# Altium footprint library APF控制.pcblib: 35 footprints (part 2 of 3)
Each footprint in its own frame and in the unit in brackets; x right, y up, seen from the top. Pads: shape width x height; smd on the part's side, far side on the other; paste and mask are expansions set on the pad; w line width, h text height; cw(c..) or ccw(c..) is an arc to the next point about the centre after c.
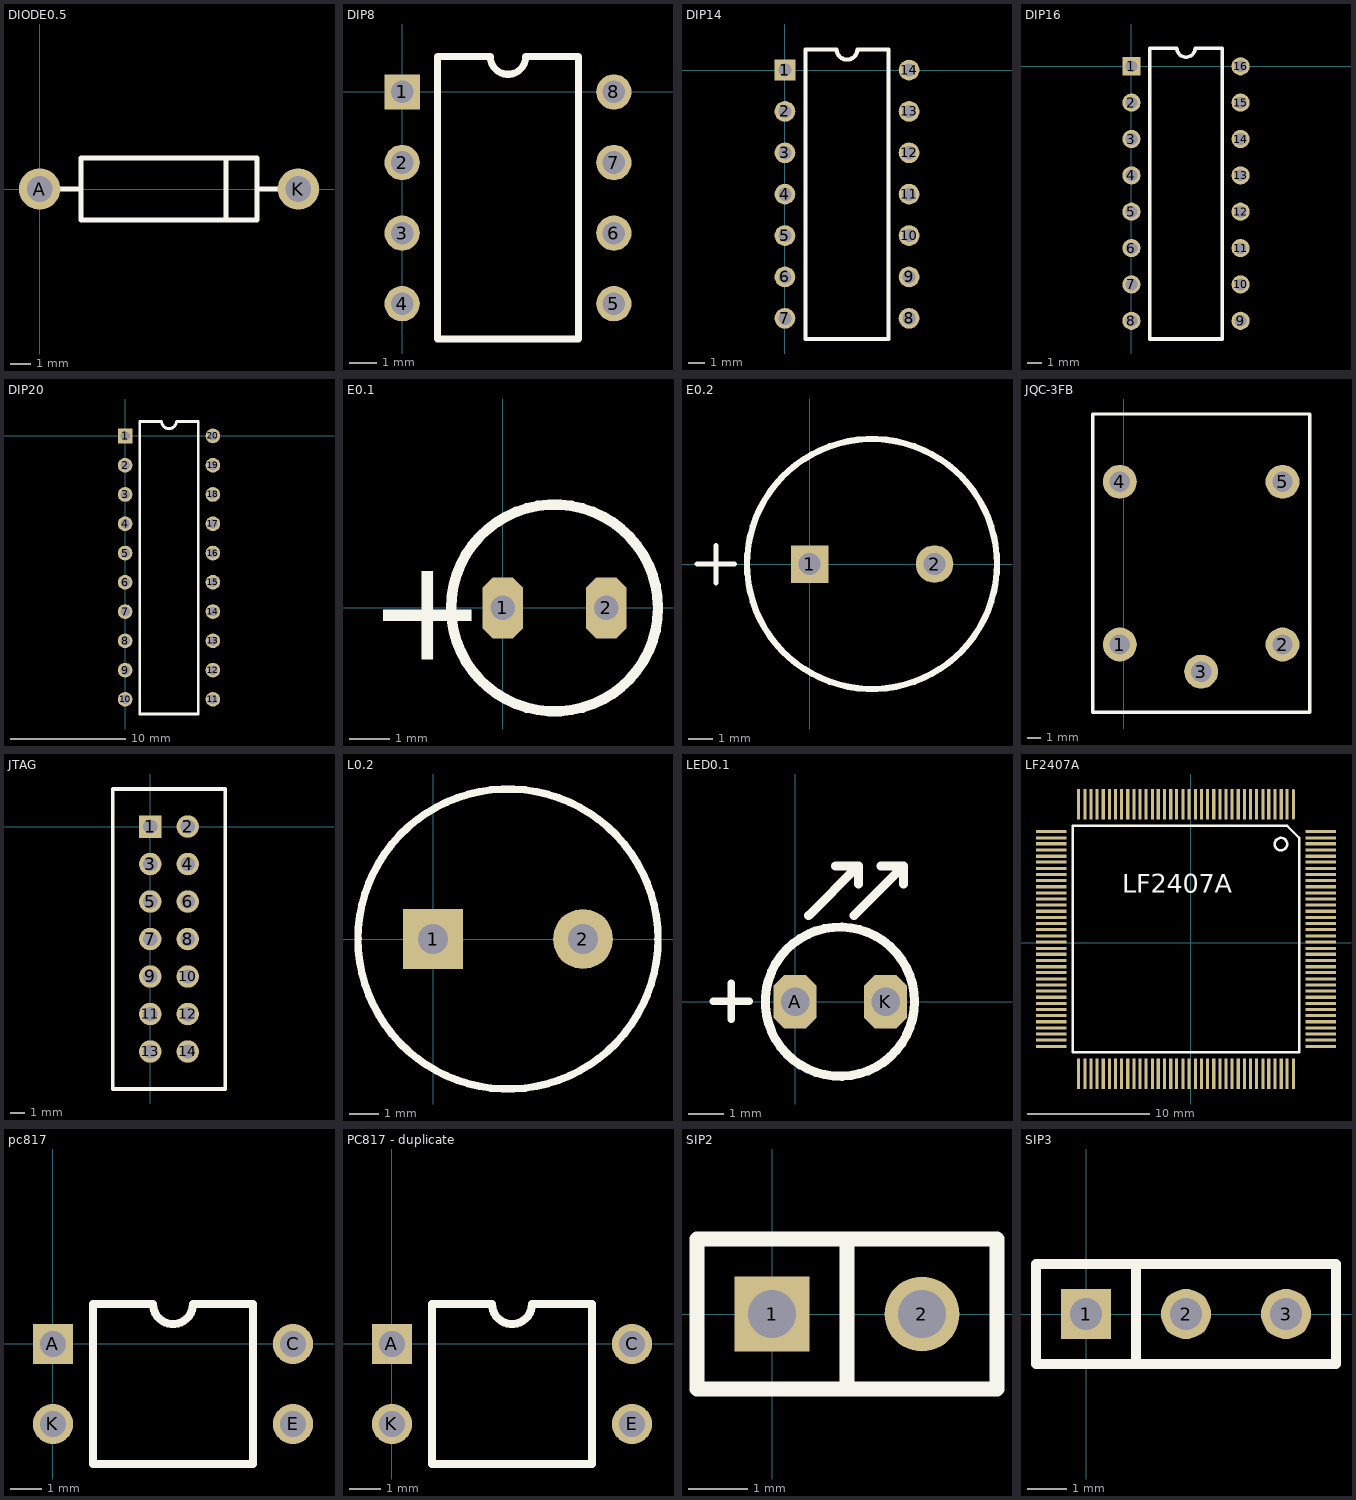
[diagram p1: the footprints below, top view; thin cyan lines are the x and y axes]

## DIODE0.5 [mil]
pads (2):
  round 80 hole 50: A(0,0) K(500,0)
TopOverlay:
  lines w10: 40,0 80,0 ; 360,-60 360,60 ; 420,0 460,0 ; 80,0 80,-60 420,-60 420,60 80,60 80,0

## DIP8 [mil]
pads (8):
  rect 50x50 hole 32: 1(0,0)
  round 50 hole 32: 2(0,-100) 3(0,-200) 4(0,-300) 5(300,-300) 6(300,-200) 7(300,-100) 8(300,0)
TopOverlay:
  lines w10: 50,-350 250,-350 250,50 175,50 cw(c150,50) 125,50 50,50 50,-350

## DIP14 [mil]
pads (14):
  rect 50x50 hole 32: 1(0,0)
  round 50 hole 32: 2(0,-100) 3(0,-200) 4(0,-300) 5(0,-400) 6(0,-500) 7(0,-600) 8(300,-600) 9(300,-500) 10(300,-400) 11(300,-300) 12(300,-200) 13(300,-100) 14(300,0)
TopOverlay:
  lines w10: 50,-650 50,50 125,50 ccw(c150,50) 175,50 250,50 250,-650 50,-650

## DIP16 [mil]
pads (16):
  rect 50x50 hole 32: 1(0,0)
  round 50 hole 32: 2(0,-100) 3(0,-200) 4(0,-300) 5(0,-400) 6(0,-500) 7(0,-600) 8(0,-700) 9(300,-700) 10(300,-600) 11(300,-500) 12(300,-400) 13(300,-300) 14(300,-200) 15(300,-100) 16(300,0)
TopOverlay:
  lines w10: 50,-750 250,-750 250,50 175,50 cw(c150,50) 125,50 50,50 50,-750

## DIP20 [mil]
pads (20):
  rect 50x50 hole 32: 1(0,0)
  round 50 hole 32: 2(0,-100) 3(0,-200) 4(0,-300) 5(0,-400) 6(0,-500) 7(0,-600) 8(0,-700) 9(0,-800) 10(0,-900) 11(300,-900) 12(300,-800) 13(300,-700) 14(300,-600) 15(300,-500) 16(300,-400) 17(300,-300) 18(300,-200) 19(300,-100) 20(300,0)
TopOverlay:
  lines w10: 50,-950 50,50 125,50 ccw(c150,50) 175,50 250,50 250,-950 50,-950

## E0.1 [mm]
pads (2):
  oct 1x1.5 hole 0.6: 1(0,0) 2(2.54,0)
TopOverlay:
  circle w0.254: c1.27,0 r2.54
  text "+" at -3.302,-1.27 h2.54

## E0.2 [mil]
pads (2):
  rect 60x60 hole 35: 1(0,0)
  round 60 hole 35: 2(200,0)
TopOverlay:
  circle w10: c100,0 r200
  lines w8: -180,0 -120,0 ; -150,-30 -150,30

## JQC-3FB [mm]
pads (5):
  round 2.5 hole 1.5: 1(-0.285,13.43) 2(11.715,13.43) 3(5.715,11.43) 4(-0.285,25.43) 5(11.715,25.43)
TopOverlay:
  lines w0.25: -2.285,8.43 13.715,8.43 13.715,30.43 -2.285,30.43 -2.285,8.43

## JTAG [mil]
pads (14):
  rect 60x60 hole 38: 1(0,0)
  round 60 hole 38: 2(100,0) 3(0,-100) 4(100,-100) 5(0,-200) 6(100,-200) 7(0,-300) 8(100,-300) 9(0,-400) 10(100,-400) 11(0,-500) 12(100,-500) 13(0,-600) 14(100,-600)
TopOverlay:
  lines w10: -100,-700 200,-700 200,100 -100,100 -100,-700

## L0.2 [mil]
pads (2):
  rect 80x80 hole 40: 1(0,0)
  round 80 hole 40: 2(200,0)
TopOverlay:
  circle w10: c100,0 r200

## LED0.1 [mm]
pads (2):
  oct 1.2x1.5 hole 0.8: A(0,0) K(2.54,0)
TopOverlay:
  circle w0.254: c1.259,0 r2.095
  lines w0.2: -2.297,0.01 -1.789,0.01 -1.281,0.01 ; -1.789,-0.498 -1.789,0.518
  lines w0.254: 0.381,2.413 1.778,3.81 ; 1.143,3.81 1.778,3.81 ; 1.651,2.413 3.048,3.81 ; 1.778,3.302 1.778,3.81 ; 2.413,3.81 3.048,3.81 ; 3.048,3.302 3.048,3.81

## LF2407A [mil]
pads (144):
  oval 10x98 smd: 1(330,445)
  rect 10x98 smd: 2(310,445) 3(291,445) 4(271,445) 5(251,445) 6(232,445) 7(212,445) 8(192,445) 9(173,445) 10(153,445) 11(133,445) 12(114,445) 13(94,445) 14(74,445) 15(54,445) 16(35,445) 17(15,445) 18(-5,445) 19(-25,445) 20(-45,445) 21(-64,445) 22(-84,445) 23(-104,445) 24(-123,445) 25(-143,445) 26(-163,445) 27(-182,445) 28(-202,445) 29(-222,445) 30(-241,445) 31(-261,445) 32(-281,445) 33(-301,445) 34(-320,445) 35(-340,445) 36(-360,445) 73(-360,-421) 74(-340,-421) 75(-320,-421) 76(-301,-421) 77(-281,-421) 78(-261,-421) 79(-241,-421) 80(-222,-421) 81(-202,-421) 82(-182,-421) 83(-163,-421) 84(-143,-421) 85(-123,-421) 86(-104,-421) 87(-84,-421) 88(-64,-421) 89(-45,-421) 90(-25,-421) 91(-5,-421) 92(15,-421) 93(35,-421) 94(54,-421) 95(74,-421) 96(94,-421) 97(114,-421) 98(133,-421) 99(153,-421) 100(173,-421) 101(192,-421) 102(212,-421) 103(232,-421) 104(251,-421) 105(271,-421) 106(291,-421) 107(310,-421) 108(330,-421)
  rect 98x10 smd: 37(-448,357) 38(-448,337) 39(-448,318) 40(-448,298) 41(-448,278) 42(-448,259) 43(-448,239) 44(-448,219) 45(-448,200) 46(-448,180) 47(-448,160) 48(-448,141) 49(-448,121) 50(-448,101) 51(-448,81) 52(-448,62) 53(-448,42) 54(-448,22) 55(-448,2) 56(-448,-18) 57(-448,-37) 58(-448,-57) 59(-448,-77) 60(-448,-96) 61(-448,-116) 62(-448,-136) 63(-448,-155) 64(-448,-175) 65(-448,-195) 66(-448,-214) 67(-448,-234) 68(-448,-254) 69(-448,-274) 70(-448,-293) 71(-448,-313) 72(-448,-333) 109(418,-333) 110(418,-313) 111(418,-293) 112(418,-274) 113(418,-254) 114(418,-234) 115(418,-214) 116(418,-195) 117(418,-175) 118(418,-155) 119(418,-136) 120(418,-116) 121(418,-96) 122(418,-77) 123(418,-57) 124(418,-37) 125(418,-18) 126(418,2) 127(418,22) 128(418,42) 129(418,62) 130(418,81) 131(418,101) 132(418,121) 133(418,141) 134(418,160) 135(418,180) 136(418,200) 137(418,219) 138(418,239) 139(418,259) 140(418,278) 141(418,298) 142(418,318) 143(418,337) 144(418,357)
TopOverlay:
  circle w8: c290,317 r20
  lines w8: -379,-352 -379,376 310,376 349,337 349,-352 -379,-352
  text "LF2407A" at -220,160 h60

## pc817 [mil]
pads (4):
  rect 50x50 hole 32: A(0,0)
  round 50 hole 32: C(300,0) E(300,-100) K(0,-100)
TopOverlay:
  lines w10: 50,-150 50,50 125,50 ccw(c150,50) 175,50 250,50 250,-150 50,-150

## PC817 - duplicate [mil]
pads (4):
  rect 50x50 hole 32: A(0,0)
  round 50 hole 32: C(300,0) E(300,-100) K(0,-100)
TopOverlay:
  lines w10: 50,-150 50,50 125,50 ccw(c150,50) 175,50 250,50 250,-150 50,-150

## SIP2 [mil]
pads (2):
  rect 50x50 hole 32: 1(0,0)
  round 50 hole 32: 2(100,0)
TopOverlay:
  lines w10: 50,-50 50,50 ; -50,-50 -50,50 150,50 150,-50 -50,-50

## SIP3 [mil]
pads (3):
  rect 50x50 hole 32: 1(0,0)
  round 50 hole 32: 2(100,0) 3(200,0)
TopOverlay:
  lines w10: 50,-50 50,50 ; -50,-50 -50,50 250,50 250,-50 -50,-50